# EAGLE library part NC7 (library SKAARHOJ)
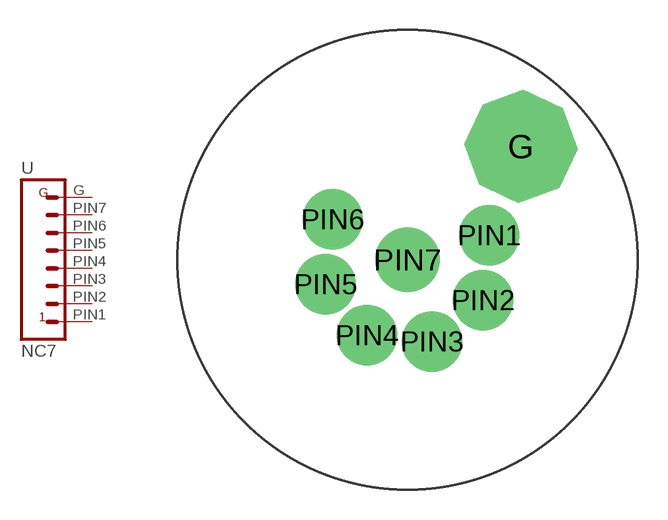
[diagram p15: symbol with the pads of NC7-MD-L1; footprint NC7-MD-L1]

Designator prefix -

## NC7  [NC7-MD-L1]
G  G  pas
PIN1  1  pas
PIN2  2  pas
PIN3  3  pas
PIN4  4  pas
PIN5  5  pas
PIN6  6  pas
PIN7  7  pas

## Footprint NC7-MD-L1 (pad centres in mm)
drill 4.2 octagon: G 5.64,5.64
drill 2: PIN1 4.068,1.22; PIN2 3.76,-2.01; PIN3 1.22,-4.07; PIN4 -2.01,-3.76; PIN5 -4.07,-1.22; PIN6 -3.72,2.01
drill 2.2: PIN7 0,0